# Altium footprint library SOP127P600X165-9N.PcbLib: 1 footprints
Each footprint in its own frame and in the unit in brackets; x right, y up, seen from the top. Pads: shape width x height; smd on the part's side, far side on the other; paste and mask are expansions set on the pad; w line width, h text height; cw(c..) or ccw(c..) is an arc to the next point about the centre after c.
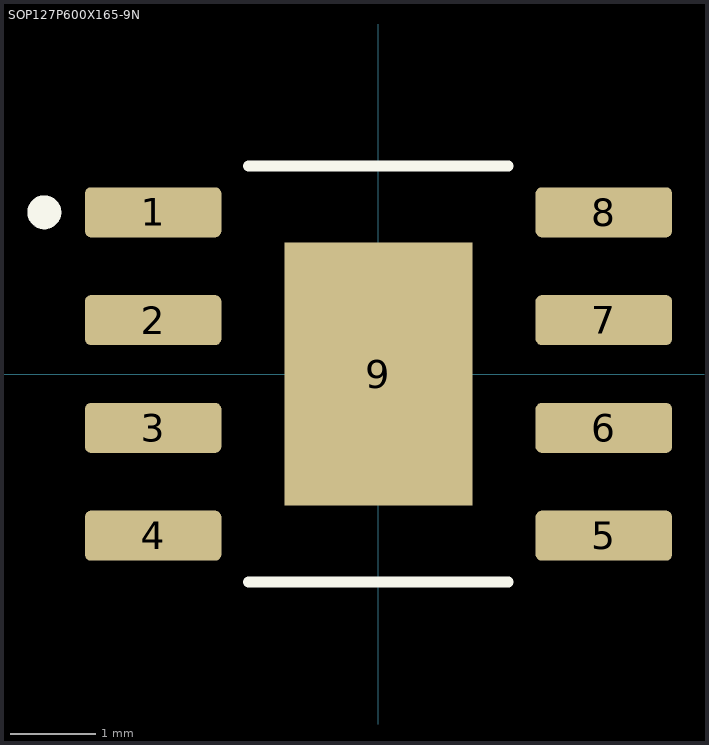
[diagram p0: the footprint, top view; thin cyan lines are the x and y axes]

## SOP127P600X165-9N [mm]
height 1.65
pads (9):
  rrect25% 1.61x0.59 smd: 1(-2.655,1.905) 2(-2.655,0.635) 3(-2.655,-0.635) 4(-2.655,-1.905) 5(2.655,-1.905) 6(2.655,-0.635) 7(2.655,0.635) 8(2.655,1.905)
  rect 2.21x3.1 smd paste-3: 9(0,0)
Top Overlay:
  circle w0.2: c-3.937,1.905 r0.1
  lines w0.127: -1.53,-2.45 1.53,-2.45 ; -1.53,2.45 1.53,2.45
Top Paste:
  region: 0.699,-0.98 -0.699,-0.98 -0.699,0.98 0.699,0.98
3D body "step_temp.STEP": height 1.65, standoff 0, extent -3,-2.45 3,2.45